# EAGLE library part CX70M-24P1 (library CX70M-24P1)
Usb Connector, 3.1 Type c, Rcpt, Smt
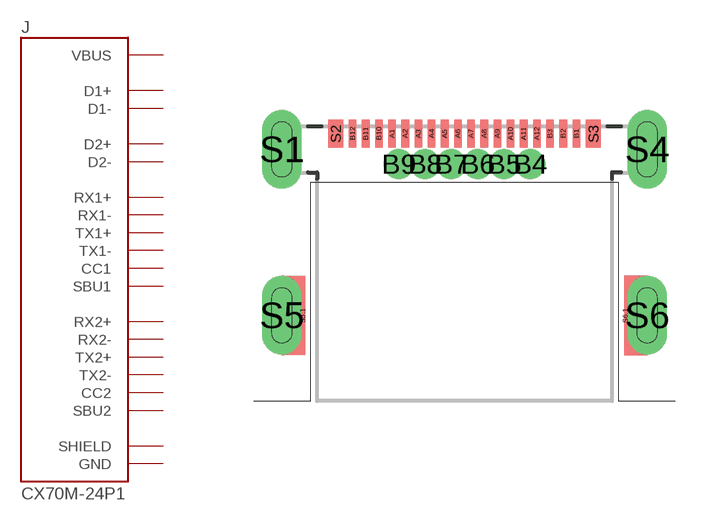
[diagram p0: symbol with the pads of HRS_CX70M-24P1; footprint HRS_CX70M-24P1]

Designator prefix J

## CX70M-24P1 (Availability: Unavailable; Description: Usb Connector, 3.1 Type c, Rcpt, Smt; MF: Hirose Electric; MP: CX70M-24P1; Package: None; Price: None)  [HRS_CX70M-24P1]
A1  GND  pwr
A2  TX1+
A3  TX1-
A4  VBUS  pwr
A5  CC1
A6  D1+
A7  D1-
A8  SBU1
A9  VBUS  pwr
A10  RX2-
A11  RX2+
A12  GND  pwr
B1  GND  pwr
B2  TX2+
B3  TX2-
B4  VBUS  pwr
B5  CC2
B6  D2+
B7  D2-
B8  SBU2
B9  VBUS  pwr
B10  RX1-
B11  RX1+
B12  GND  pwr
S1  SHIELD  pwr
S2  SHIELD  pwr
S3  SHIELD  pwr
S4  SHIELD  pwr
S5  SHIELD  pwr
S5.1  SHIELD  pwr
S6  SHIELD  pwr
S6.1  SHIELD  pwr

## Footprint HRS_CX70M-24P1 (pad centres in mm)
smd 0.23 x 0.85: A1 -2.2,5.525; A2 -1.8,5.525; A3 -1.4,5.525; A4 -1,5.525; A5 -0.6,5.525; A6 -0.2,5.525; A7 0.2,5.525; A8 0.6,5.525; A9 1,5.525; A10 1.4,5.525; A11 1.8,5.525; A12 2.2,5.525; B1 3.4,5.525; B2 3,5.525; B3 2.6,5.525; B10 -2.6,5.525; B11 -3,5.525; B12 -3.4,5.525
drill 0.4 pad 0.6: B4 2,4.6; B5 1.2,4.6; B6 0.4,4.6; B7 -0.4,4.6; B8 -1.2,4.6; B9 -2,4.6
drill 0.6 pad 1.2 long: S1 -5.55,5.05; S4 5.55,5.05; S5 -5.55,0; S6 5.55,0
smd 0.46 x 0.85: S2 -3.915,5.525; S3 3.915,5.525
smd 0.1 x 0.1: S5.1 -4.9,0; S6.1 4.9,0